# Altium footprint library holtek.PCBLIB: 5 footprints
Each footprint in its own frame and in the unit in brackets; x right, y up, seen from the top. Pads: shape width x height; smd on the part's side, far side on the other; paste and mask are expansions set on the pad; w line width, h text height; cw(c..) or ccw(c..) is an arc to the next point about the centre after c.
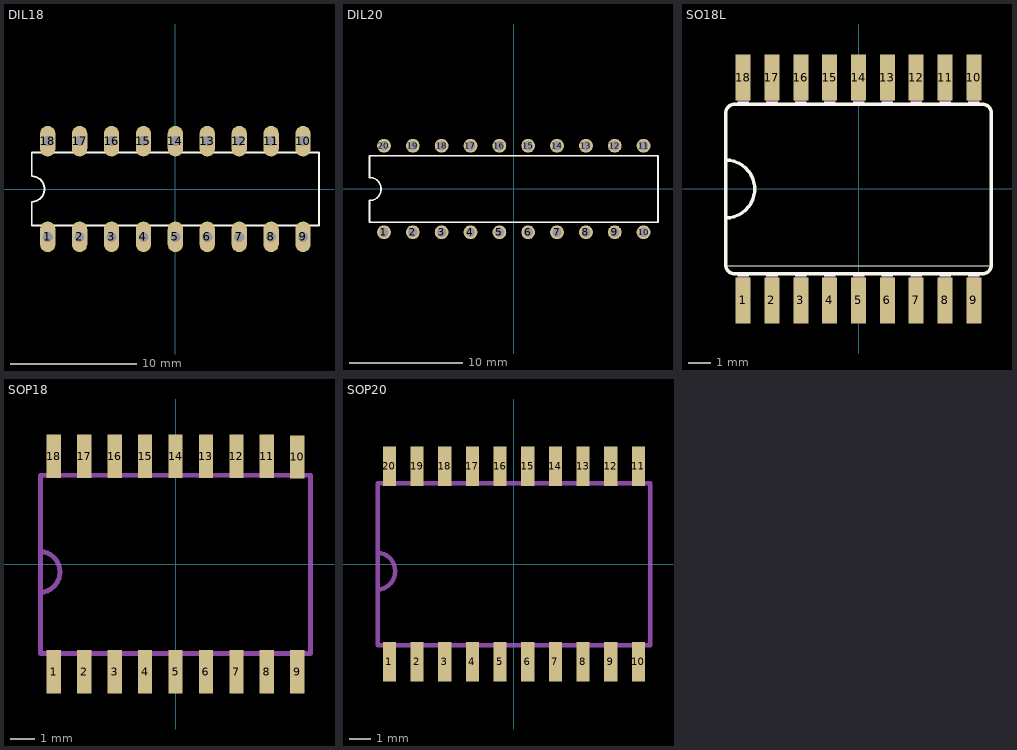
[diagram p0: the footprints below, top view; thin cyan lines are the x and y axes]

## DIL18 [mil]
pads (18):
  oval 48x96 hole 32: 1(-400,-150) 2(-300,-150) 3(-200,-150) 4(-100,-150) 5(0,-150) 6(100,-150) 7(200,-150) 8(300,-150) 9(400,-150) 10(400,150) 11(300,150) 12(200,150) 13(100,150) 14(0,150) 15(-100,150) 16(-200,150) 17(-300,150) 18(-400,150)
Top Overlay:
  lines w6: -450,-115 450,-115 450,115 -450,115 -450,40 cw(c-450,0) -450,-40 -450,-115

## DIL20 [mil]
pads (20):
  round 48 hole 32: 1(-450,-150) 2(-350,-150) 3(-250,-150) 4(-150,-150) 5(-50,-150) 6(50,-150) 7(150,-150) 8(250,-150) 9(350,-150) 10(450,-150) 11(450,150) 12(350,150) 13(250,150) 14(150,150) 15(50,150) 16(-50,150) 17(-150,150) 18(-250,150) 19(-350,150) 20(-450,150)
Top Overlay:
  lines w6: -500,-115 500,-115 500,115 -500,115 -500,40 cw(c-500,0) -500,-40 -500,-115

## SO18L [mil]
pads (18):
  rect 26x80 smd: 1(-200,-193) 2(-150,-193) 3(-100,-193) 4(-50,-193) 5(0,-193) 6(50,-193) 7(100,-193) 8(150,-193) 9(200,-193) 10(200,193) 11(150,193) 12(100,193) 13(50,193) 14(0,193) 15(-50,193) 16(-100,193) 17(-150,193) 18(-200,193)
Top Overlay:
  rectangle: -210,-152 -190,-147
  rectangle: -160,-152 -140,-147
  rectangle: -110,-152 -90,-147
  rectangle: -60,-152 -40,-147
  rectangle: -10,-152 10,-147
  rectangle: 40,-152 60,-147
  rectangle: 90,-152 110,-147
  rectangle: 140,-152 160,-147
  rectangle: -210,147 -190,152
  rectangle: -160,147 -140,152
  rectangle: -110,147 -90,152
  rectangle: -60,147 -40,152
  rectangle: -10,147 10,152
  rectangle: 40,147 60,152
  rectangle: 90,147 110,152
  rectangle: 140,147 160,152
  rectangle: 190,147 210,152
  rectangle: 190,-152 210,-147
  lines w2: -230,-133 230,-133
  lines w6: -230,-50 -230,50 ; -230,-50 -230,-132 ccw(c-215,-132) -215,-147 215,-147 ccw(c215,-132) 230,-132 230,132 ccw(c215,132) 215,147 -215,147 ccw(c-215,132) -230,132 -230,50 ; -230,-50 ccw(c-230,0) -230,50
Mechanical 16:
  rectangle: -210,-210 -190,-152
  rectangle: -160,-210 -140,-152
  rectangle: -110,-210 -90,-152
  rectangle: -60,-210 -40,-152
  rectangle: -10,-210 10,-152
  rectangle: 40,-210 60,-152
  rectangle: 90,-210 110,-152
  rectangle: 140,-210 160,-152
  rectangle: -210,152 -190,210
  rectangle: -160,152 -140,210
  rectangle: -110,152 -90,210
  rectangle: -60,152 -40,210
  rectangle: -10,152 10,210
  rectangle: 40,152 60,210
  rectangle: 90,152 110,210
  rectangle: 140,152 160,210
  rectangle: 190,152 210,210
  rectangle: 190,-210 210,-152

## SOP18 [mil]
pads (18):
  rect 23.62x70.87 smd: 1(-200,-176.18) 2(-150,-176.18) 3(-100,-176.18) 4(-50,-176.18) 5(0,-176.18) 6(50,-176.18) 7(100,-176.18) 8(150,-176.18) 9(200,-176.18) 10(200,176.18) 11(150,177.17) 12(100,177.17) 13(50,177.17) 14(0,177.17) 15(-50,177.17) 16(-100,177.17) 17(-150,177.17) 18(-200,177.17)
Mechanical 16:
  rectangle: -209.84,-199.41 -190.16,-147.05
  rectangle: -159.84,-199.41 -140.16,-147.05
  rectangle: -109.84,-199.41 -90.16,-147.05
  rectangle: -59.84,-199.41 -40.16,-147.05
  rectangle: -9.84,-199.41 9.84,-147.05
  rectangle: 40.16,-199.41 59.84,-147.05
  rectangle: 90.16,-199.41 109.84,-147.05
  rectangle: 140.16,-199.41 159.84,-147.05
  rectangle: 190.16,-199.41 209.84,-147.05
  region: 209.84,199.4 190.16,199.4 190.16,147.05 209.84,147.05
  rectangle: 140.16,148.03 159.84,200.39
  rectangle: 90.16,148.03 109.84,200.39
  rectangle: 40.16,148.03 59.84,200.39
  rectangle: -9.84,148.03 9.84,200.39
  rectangle: -59.84,148.03 -40.16,200.39
  rectangle: -109.84,148.03 -90.16,200.39
  rectangle: -159.84,148.03 -140.16,200.39
  rectangle: -209.84,148.03 -190.16,200.39
  lines w8: -221.26,-46.06 -221.26,-146.06 221.26,-146.06 221.26,146.06 -221.26,146.06 -221.26,21.06 ; -221.26,-46.06 -221.26,21.06 ; -221.26,-46.06 ccw(c-223.18,-12.5) -221.26,21.06

## SOP20 [mil]
pads (20):
  rect 23.62x70.87 smd: 1(-225,-176.18) 2(-175,-176.18) 3(-125,-176.18) 4(-75,-176.18) 5(-25,-176.18) 6(25,-176.18) 7(75,-176.18) 8(125,-176.18) 9(175,-176.18) 10(225,-176.18) 11(225,177.17) 12(175,177.17) 13(125,177.17) 14(75,177.17) 15(25,177.17) 16(-25,177.17) 17(-75,177.17) 18(-125,177.17) 19(-175,177.17) 20(-225,177.17)
Mechanical 16:
  rectangle: -234.84,-199.41 -215.16,-147.05
  rectangle: -184.84,-199.41 -165.16,-147.05
  rectangle: -134.84,-199.41 -115.16,-147.05
  rectangle: -84.84,-199.41 -65.16,-147.05
  rectangle: -34.84,-199.41 -15.16,-147.05
  rectangle: 15.16,-199.41 34.84,-147.05
  rectangle: 65.16,-199.41 84.84,-147.05
  rectangle: 115.16,-199.41 134.84,-147.05
  rectangle: 165.16,-199.41 184.84,-147.05
  rectangle: 215.16,-199.41 234.84,-147.05
  rectangle: 215.16,148.03 234.84,200.39
  rectangle: 165.16,148.03 184.84,200.39
  rectangle: 115.16,148.03 134.84,200.39
  rectangle: 65.16,148.03 84.84,200.39
  rectangle: 15.16,148.03 34.84,200.39
  rectangle: -34.84,148.03 -15.16,200.39
  rectangle: -84.84,148.03 -65.16,200.39
  rectangle: -134.84,148.03 -115.16,200.39
  rectangle: -184.84,148.03 -165.16,200.39
  rectangle: -234.84,148.03 -215.16,200.39
  lines w8: -246.26,-46.06 -246.26,-146.06 246.26,-146.06 246.26,146.06 -246.26,146.06 -246.26,21.06 ; -246.26,-46.06 -246.26,21.06 ; -246.26,-46.06 ccw(c-248.18,-12.5) -246.26,21.06